# Altium footprint library SPST GF-123-0054.PcbLib: 1 footprints
Each footprint in its own frame and in the unit in brackets; x right, y up, seen from the top. Pads: shape width x height; smd on the part's side, far side on the other; paste and mask are expansions set on the pad; w line width, h text height; cw(c..) or ccw(c..) is an arc to the next point about the centre after c.
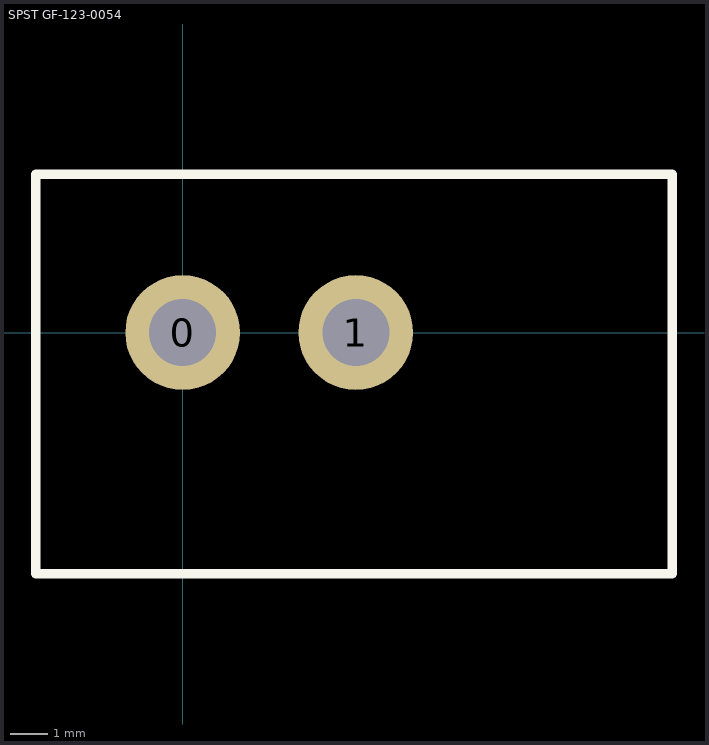
[diagram p0: the footprint, top view; thin cyan lines are the x and y axes]

## SPST GF-123-0054 [mil]
pads (2):
  round 120 hole 70: 0(0,0) 1(181,0)
Top Overlay:
  lines w10: -153.54,-251.97 511.81,-251.97 511.81,165.35 -153.54,165.35 -153.54,-251.97
3D body "GF-123-0054--3DModel-STEP-56544.STEP": height 589, standoff -160, extent -144.86,-243.3 503.14,156.7